# EAGLE library part LM2734 (library Elecrow_IC)
Thin SOT23 1A Load Step-Down DC-DC Regulator http://www.national.com/ds/LM/LM2734.pdf
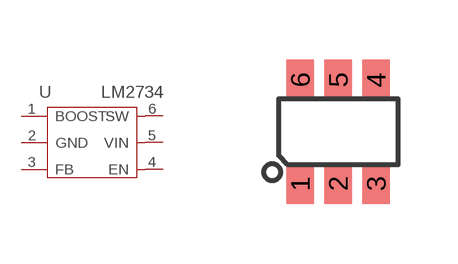
[diagram p27: symbol with the pads of TSOT6; footprint TSOT6]

Designator prefix U

## LM2734-TSOT6  [TSOT6]
1  BOOST  in
2  GND  sup
3  FB  in
4  EN  in
5  VIN  sup
6  SW  out

## Footprint TSOT6 (pad centres in mm)
smd 0.69 x 1: 1 -0.95,-1.3; 2 0,-1.3; 3 0.95,-1.3; 4 0.95,1.3; 5 0,1.3; 6 -0.95,1.3